# Altium schematic symbol library SCH - MCU - ATMEGA - MICROCHIP ATMEGA128-16MU QFN64.SchLib: 1 symbol
Pins are listed as number, name and electrical type; pins without a type are passive.

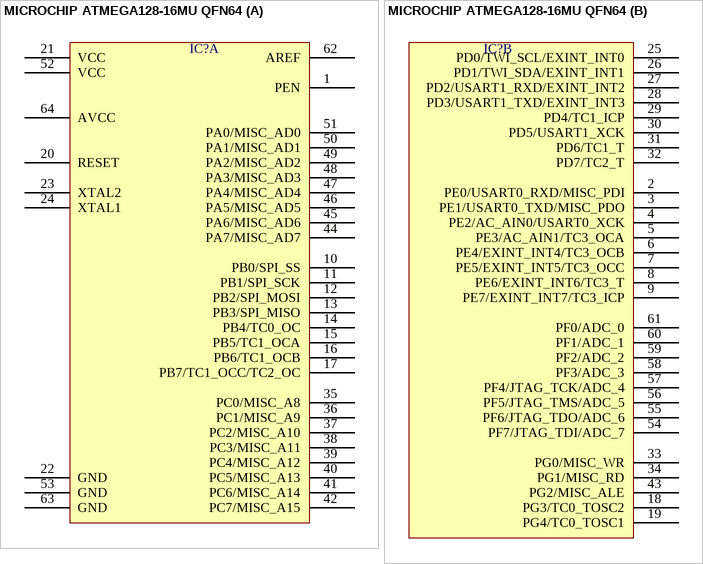
[diagram p0: symbol MICROCHIP ATMEGA128-16MU QFN64]

## MICROCHIP ATMEGA128-16MU QFN64
designator IC?  (value not drawn)
part A pins: 1 PEN, 10 PB0/SPI_SS, 11 PB1/SPI_SCK, 12 PB2/SPI_MOSI, 13 PB3/SPI_MISO, 14 PB4/TC0_OC, 15 PB5/TC1_OCA, 16 PB6/TC1_OCB, 17 PB7/TC1_OCC/TC2_OC, 20 RESET, 21 VCC, 22 GND, 23 XTAL2, 24 XTAL1, 35 PC0/MISC_A8, 36 PC1/MISC_A9, 37 PC2/MISC_A10, 38 PC3/MISC_A11, 39 PC4/MISC_A12, 40 PC5/MISC_A13, 41 PC6/MISC_A14, 42 PC7/MISC_A15, 44 PA7/MISC_AD7, 45 PA6/MISC_AD6, 46 PA5/MISC_AD5, 47 PA4/MISC_AD4, 48 PA3/MISC_AD3, 49 PA2/MISC_AD2, 50 PA1/MISC_AD1, 51 PA0/MISC_AD0, 52 VCC, 53 GND, 62 AREF, 63 GND, 64 AVCC
part B pins: 2 PE0/USART0_RXD/MISC_PDI, 3 PE1/USART0_TXD/MISC_PDO, 4 PE2/AC_AIN0/USART0_XCK, 5 PE3/AC_AIN1/TC3_OCA, 6 PE4/EXINT_INT4/TC3_OCB, 7 PE5/EXINT_INT5/TC3_OCC, 8 PE6/EXINT_INT6/TC3_T, 9 PE7/EXINT_INT7/TC3_ICP, 18 PG3/TC0_TOSC2, 19 PG4/TC0_TOSC1, 25 PD0/TWI_SCL/EXINT_INT0, 26 PD1/TWI_SDA/EXINT_INT1, 27 PD2/USART1_RXD/EXINT_INT2, 28 PD3/USART1_TXD/EXINT_INT3, 29 PD4/TC1_ICP, 30 PD5/USART1_XCK, 31 PD6/TC1_T, 32 PD7/TC2_T, 33 PG0/MISC_WR, 34 PG1/MISC_RD, 43 PG2/MISC_ALE, 54 PF7/JTAG_TDI/ADC_7, 55 PF6/JTAG_TDO/ADC_6, 56 PF5/JTAG_TMS/ADC_5, 57 PF4/JTAG_TCK/ADC_4, 58 PF3/ADC_3, 59 PF2/ADC_2, 60 PF1/ADC_1, 61 PF0/ADC_0